# Altium footprint library HLK-V20_PIN插件PCB封装（AD9格式）.PcbLib: 1 footprints
Each footprint in its own frame and in the unit in brackets; x right, y up, seen from the top. Pads: shape width x height; smd on the part's side, far side on the other; paste and mask are expansions set on the pad; w line width, h text height; cw(c..) or ccw(c..) is an arc to the next point about the centre after c.
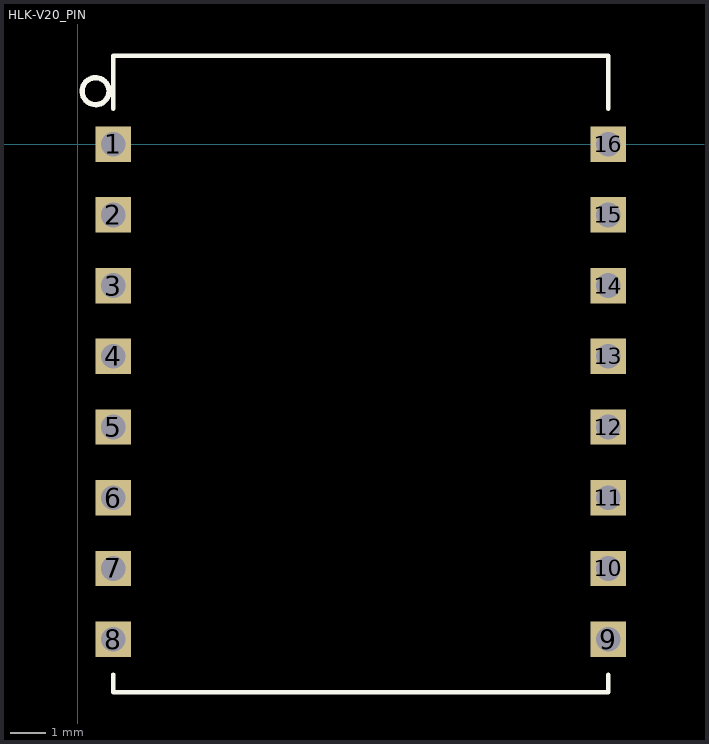
[diagram p0: the footprint, top view; thin cyan lines are the x and y axes]

## HLK-V20_PIN [mm]
pads (16):
  rect 1x1 hole 0.7: 1(1,0) 2(1,-2) 3(1,-4) 4(1,-6) 5(1,-8) 6(1,-10) 7(1,-12) 8(1,-14) 9(15,-14) 10(15,-12) 11(15,-10) 12(15,-8) 13(15,-6) 14(15,-4) 15(15,-2) 16(15,0)
Top Overlay:
  circle w0.15: c0.5,1.5 r0.381
  lines w0.127: 1,-15 1,-15.5 15,-15.5 ; 1,1 1,2.5 15,2.5 15,1 ; 15,-15 15,-15.5 ; 15,-15.5 15,-15.5